# EAGLE library part G6H2-100 (library relay)
RELAY 2 x switch, 0.5 A/125 V AC, 1 A/30 V DC, Omron
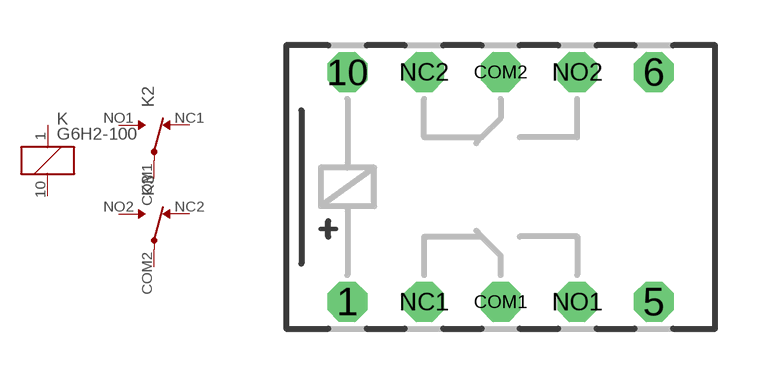
[diagram p9: symbol with the pads of G6H2-100; footprint G6H2-100]

Designator prefix K; gates 1=K 2=U 3=U

## G6H2-100  [G6H2-100]
1  1:1  pas
10  1:2  pas
COM1  2:COM  pas
COM2  3:COM  pas
NC1  2:NC  pas
NC2  3:NC  pas
NO1  2:NO  pas
NO2  3:NO  pas

## Footprint G6H2-100 (pad centres in mm)
RELAY 2 x switch 0.5 A/125 V AC, 1 A/30 V DC, Omron
drill 0.813 octagon: 1 -5.08,-3.81; 5 5.08,-3.81; 6 5.08,3.81; 10 -5.08,3.81; COM1 0,-3.81; COM2 0,3.81; NC1 -2.54,-3.81; NC2 -2.54,3.81; NO1 2.54,-3.81; NO2 2.54,3.81